# EAGLE library part SMDTOP-14 (library con-amp)
AMP CONNECTOR
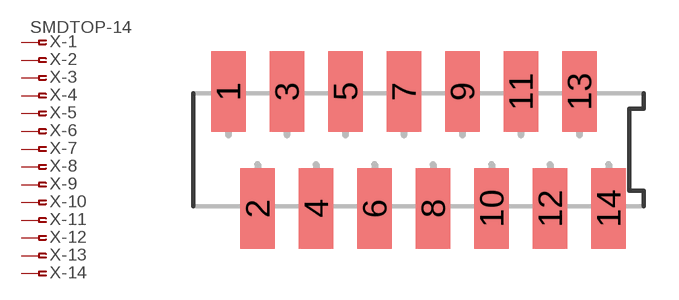
[diagram p93: symbol with the pads of SMDTOP14; footprint SMDTOP14]

Designator prefix X; gates -1=PIN-FV -2=PIN-F -3=PIN-F -4=PIN-F -5=PIN-F -6=PIN-F -7=PIN-F -8=PIN-F -9=PIN-F -10=PIN-F -11=PIN-F -12=PIN-F -13=PIN-F -14=PIN-F

## SMDTOP-14  [SMDTOP14]
1  -1:1  pas
2  -2:1  pas
3  -3:1  pas
4  -4:1  pas
5  -5:1  pas
6  -6:1  pas
7  -7:1  pas
8  -8:1  pas
9  -9:1  pas
10  -10:1  pas
11  -11:1  pas
12  -12:1  pas
13  -13:1  pas
14  -14:1  pas

## Footprint SMDTOP14 (pad centres in mm)
AMP CONNECTOR
smd 1.5 x 3.5: 1 -8.255,2.54; 2 -6.985,-2.54; 3 -5.715,2.54; 4 -4.445,-2.54; 5 -3.175,2.54; 6 -1.905,-2.54; 7 -0.635,2.54; 8 0.635,-2.54; 9 1.905,2.54; 10 3.175,-2.54; 11 4.445,2.54; 12 5.715,-2.54; 13 6.985,2.54; 14 8.255,-2.54